# Altium footprint library CGA9Q1C0G3A223J280KC.PcbLib: 3 footprints
Each footprint in its own frame and in the unit in brackets; x right, y up, seen from the top. Pads: shape width x height; smd on the part's side, far side on the other; paste and mask are expansions set on the pad; w line width, h text height; cw(c..) or ccw(c..) is an arc to the next point about the centre after c.
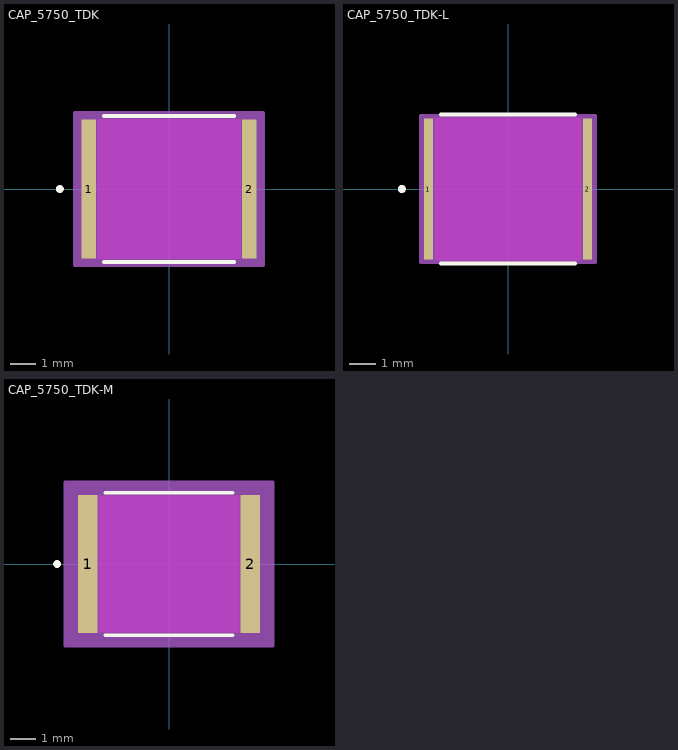
[diagram p0: the footprints below, top view; thin cyan lines are the x and y axes]

## CAP_5750_TDK [mil]
pads (2):
  rect 22x213 smd paste+0 mask+0: 1(-123,0) 2(123,0)
Top Layer keep-out:
  region: -110,-104.5 -110,104.5 110,104.5 110,-104.5
Top Overlay:
  circle w6: c-167,0 r3
  lines w6: -99.89,-111.5 99.89,-111.5 ; -99.89,111.5 99.89,111.5
  text ".Designator" at -137.5,-25 h50
Keep-Out Layer:
  region: -110,-106.5 -110,106.5 110,106.5 110,-106.5
Mechanical 13:
  circle w1: c-118,0 r3
  lines w1: -120,-106.5 -120,106.5 ; -120,-106.5 -112,-106.5 -112,106.5 -120,106.5 ; -120,-106.5 120,-106.5 ; -120,-106.5 -120,106.5 ; -120,106.5 120,106.5 ; 120,-106.5 112,-106.5 112,106.5 120,106.5 ; 120,-106.5 120,106.5 ; 120,-106.5 120,106.5
  text ".Designator" at -137.5,-25 h50
Mechanical 15:
  region: 144,-116.5 -144,-116.5 -144,116.5 144,116.5
  lines w6: -144,-116.5 -144,116.5 144,116.5 144,-116.5 -144,-116.5
3D body "CAP_5750_TDK.step": height 49.02, standoff 0, extent -120,-106.5 120,106.5

## CAP_5750_TDK-L [mil]
pads (2):
  rect 14x211 smd paste+0 mask+0: 1(-119,0) 2(119,0)
Top Layer keep-out:
  region: -110,-104.5 -110,104.5 110,104.5 110,-104.5
Top Overlay:
  circle w6: c-159,0 r3
  lines w6: -100.35,-111.5 100.35,-111.5 ; -100.35,111.5 100.35,111.5
  text ".Designator" at -137.5,-25 h50
Keep-Out Layer:
  region: -110,-106.5 -110,106.5 110,106.5 110,-106.5
Mechanical 13:
  circle w1: c-114,0 r3
  lines w1: -120,-106.5 -120,106.5 ; -120,-106.5 -112,-106.5 -112,106.5 -120,106.5 ; -120,-106.5 120,-106.5 ; -120,-106.5 -120,106.5 ; -120,106.5 120,106.5 ; 120,-106.5 112,-106.5 112,106.5 120,106.5 ; 120,-106.5 120,106.5 ; 120,-106.5 120,106.5
  text ".Designator" at -137.5,-25 h50
Mechanical 15:
  region: 130,-109.5 -130,-109.5 -130,109.5 130,109.5
  lines w6: -130,-109.5 -130,109.5 130,109.5 130,-109.5 -130,-109.5
3D body "CAP_5750_TDK.step": height 49.02, standoff 0, extent -120,-106.5 120,106.5

## CAP_5750_TDK-M [mil]
pads (2):
  rect 30x215 smd paste+0 mask+0: 1(-127,0) 2(127,0)
Top Layer keep-out:
  region: -110,-104.5 -110,104.5 110,104.5 110,-104.5
Top Overlay:
  circle w6: c-175,0 r3
  lines w6: -99.53,-111.5 99.53,-111.5 ; -99.53,111.5 99.53,111.5
  text ".Designator" at -137.5,-25 h50
Keep-Out Layer:
  region: -110,-106.5 -110,106.5 110,106.5 110,-106.5
Mechanical 13:
  circle w1: c-122,0 r3
  lines w1: -120,-106.5 -120,106.5 ; -120,-106.5 -112,-106.5 -112,106.5 -120,106.5 ; -120,-106.5 120,-106.5 ; -120,-106.5 -120,106.5 ; -120,106.5 120,106.5 ; 120,-106.5 112,-106.5 112,106.5 120,106.5 ; 120,-106.5 120,106.5 ; 120,-106.5 120,106.5
  text ".Designator" at -137.5,-25 h50
Mechanical 15:
  region: 162,-127.5 -162,-127.5 -162,127.5 162,127.5
  lines w6: -162,-127.5 -162,127.5 162,127.5 162,-127.5 -162,-127.5
3D body "CAP_5750_TDK.step": height 49.02, standoff 0, extent -120,-106.5 120,106.5